# Altium schematic symbol library G-Generator.SCHLIB: 1 symbol
Pins are listed as number, name and electrical type; pins without a type are passive.

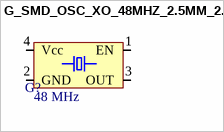
[diagram p0: symbol G_SMD_OSC_XO_48MHZ_2.5MM_2.0MM]

## G_SMD_OSC_XO_48MHZ_2.5MM_2.0MM
designator G?  value 48 MHz  (hidden comment: G_SMD_OSC_XO_48MHZ_2.5MM_2.0MM)
Oscillator, 48 MHz
footprint SMD_G_2.5MM_2.0MM
pins: 1 EN, 2 GND, 3 OUT, 4 Vcc